# Altium integrated library SSW-118-03-T-D.IntLib: 1 symbol
Pins are listed as number, name and electrical type; pins without a type are passive.

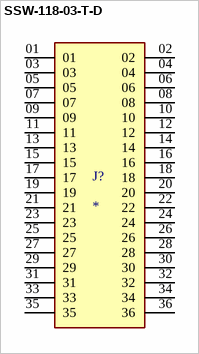
[diagram p0: symbol SSW-118-03-T-D]

## SSW-118-03-T-D
designator J?
36 Position Receptacle Connector 0.100 (2.54mm) Through Hole, Right Angle Tin; MF: Samtec; MP: SSW-118-03-T-D; SnapEDA_Link: https://www.snapeda.com/parts/SSW-118-03-T-D/Samtec/view-part/?ref=snap; Price: None; Check_prices: https://www.snapeda.com/parts/SSW-118-03-T-D/Samtec/view-part/?ref=eda; Purchase-URL: https://pricing.snapeda.com/search/part/SSW-118-03-T-D/?ref=eda; Value: *; Availability: In Stock; Package: None
footprint SAMTEC_SSW-118-03-T-D
pins: 01, 02, 03, 04, 05, 06, 07, 08, 09, 10, 11, 12, 13, 14, 15, 16, 17, 18, 19, 20, 21, 22, 23, 24, 25, 26, 27, 28, 29, 30, 31, 32, 33, 34, 35, 36